# Altium schematic symbol library BQ24210.SchLib: 1 symbol
Pins are listed as number, name and electrical type; pins without a type are passive.

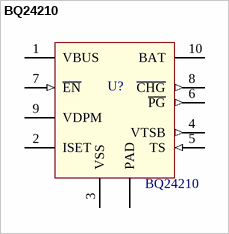
[diagram p0: symbol BQ24210]

## BQ24210
designator U?  value BQ24210  (hidden comment: *)
800-mA, Single-Input, Single-Cell Li-Ion Battery Solar Charger; Manufacturer: Texas Instruments; Link mouser: http://www.mouser.com/ProductDetail/Texas-Instruments/BQ24210DQCT/
footprint BQ24210 (WSON, 10-Leads, Body 3.00x2.00mm, Pitch 0.50mm, Thermal Pad 2.40x0.79mm, IPC Medium Density)
pins: 1 VBUS (power), 2 ISET, 3 VSS (power), 4 VTSB (out), 5 TS (in), 6 ~{PG} (out), 7 ~{EN} (in), 8 ~{CHG} (out), 9 VDPM, 10 BAT, PAD (power)